# EAGLE library part 24R-JMCS-G (library jst-jmc)
0.5mm Pitch SMT Board to Board Connector Source: http://www.jst-mfg.com/product/pdf/jpn/JMC.pdf http://www.jst-mfg.com/product/detail.php?series=147
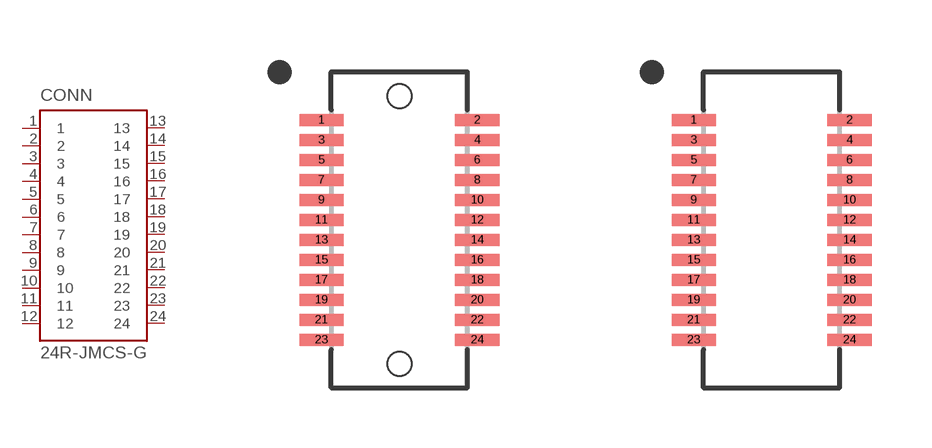
[diagram p14: symbol with the pads of 24R-JMCS-G-B-TF(S); footprints 24R-JMCS-G-B-TF(S), 24R-JMCS-G-TF(S)]

Designator prefix CONN

## 24R-JMCS-G-B-TE(S)  [24R-JMCS-G-B-TF(S)]
1  1
2  2
3  3
4  4
5  5
6  6
7  7
8  8
9  9
10  10
11  11
12  12
13  13
14  14
15  15
16  16
17  17
18  18
19  19
20  20
21  21
22  22
23  23
24  24

## 24R-JMCS-G-TE(S)  [24R-JMCS-G-TF(S)]
Pads as for 24R-JMCS-G-B-TF(S)

## Footprint 24R-JMCS-G-B-TF(S) (pad centres in mm)
smd 1.1 x 0.3: 1 -1.95,2.75; 2 1.95,2.75; 3 -1.95,2.25; 4 1.95,2.25; 5 -1.95,1.75; 6 1.95,1.75; 7 -1.95,1.25; 8 1.95,1.25; 9 -1.95,0.75; 10 1.95,0.75; 11 -1.95,0.25; 12 1.95,0.25; 13 -1.95,-0.25; 14 1.95,-0.25; 15 -1.95,-0.75; 16 1.95,-0.75; 17 -1.95,-1.25; 18 1.95,-1.25; 19 -1.95,-1.75; 20 1.95,-1.75; 21 -1.95,-2.25; 22 1.95,-2.25; 23 -1.95,-2.75; 24 1.95,-2.75
hole 0.6 at 0,3.35
hole 0.6 at 0,-3.35

## Footprint 24R-JMCS-G-TF(S) (pad centres in mm)
smd 1.1 x 0.3: 1 -1.95,2.75; 2 1.95,2.75; 3 -1.95,2.25; 4 1.95,2.25; 5 -1.95,1.75; 6 1.95,1.75; 7 -1.95,1.25; 8 1.95,1.25; 9 -1.95,0.75; 10 1.95,0.75; 11 -1.95,0.25; 12 1.95,0.25; 13 -1.95,-0.25; 14 1.95,-0.25; 15 -1.95,-0.75; 16 1.95,-0.75; 17 -1.95,-1.25; 18 1.95,-1.25; 19 -1.95,-1.75; 20 1.95,-1.75; 21 -1.95,-2.25; 22 1.95,-2.25; 23 -1.95,-2.75; 24 1.95,-2.75